# Altium schematic symbol library SCH - SENSOR - TEMPERATURE - TI LM62.SchLib: 1 symbol
Pins are listed as number, name and electrical type; pins without a type are passive.

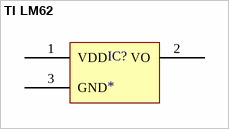
[diagram p0: symbol TI LM62]

## TI LM62
designator IC?
pins: 1 VDD, 2 VO, 3 GND